# Altium schematic symbol library Schlib1.SchLib: 2 symbols
Pins are listed as number, name and electrical type; pins without a type are passive.

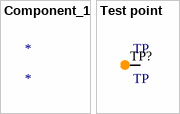
[diagram p0: symbols Component_1 to Test point]

## Component_1
designator *

## Test point
designator TP, comment TP
Value: TP
footprint Test point
pins: TP? Test point